# Altium footprint library lib_bourns.PcbLib: 3 footprints
Each footprint in its own frame and in the unit in brackets; x right, y up, seen from the top. Pads: shape width x height; smd on the part's side, far side on the other; paste and mask are expansions set on the pad; w line width, h text height; cw(c..) or ccw(c..) is an arc to the next point about the centre after c.
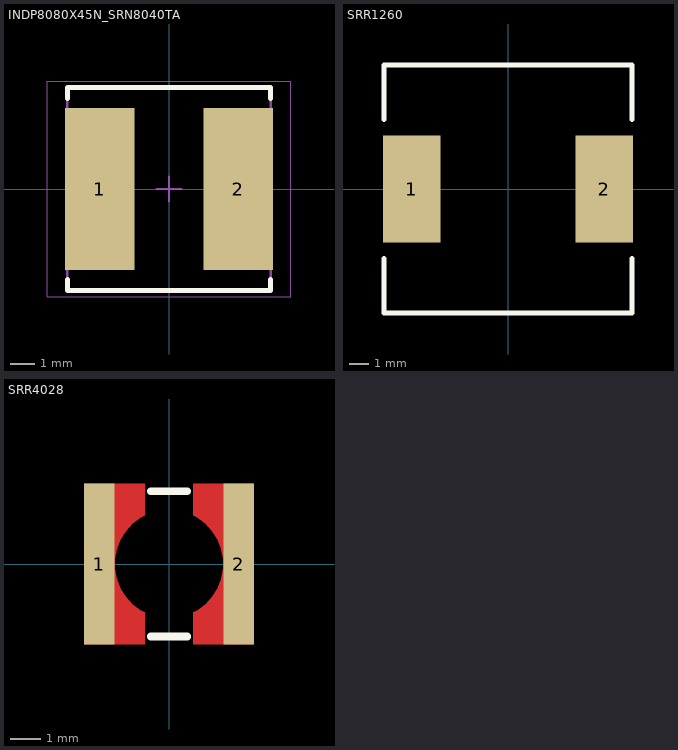
[diagram p0: the footprints below, top view; thin cyan lines are the x and y axes]

## INDP8080X45N_SRN8040TA [mm] "Precision Wire Wound Inductor, 2-Leads, Body 8.00x8.00mm, IPC Medium Density"
height 4.5
pads (2):
  rect 2.85x6.6 smd: 1(-2.825,0) 2(2.825,0)
Top Overlay:
  lines w0.2: -4.15,-3.7 -4.15,-4.15 4.15,-4.15 4.15,-3.7 ; -4.15,3.7 -4.15,4.15 4.15,4.15 4.15,3.7
Mechanical 13:
  lines w0.1: -4.15,-4.15 4.15,-4.15 4.15,4.15 -4.15,4.15 -4.15,-4.15
Mechanical 15:
  lines w0.05: -4.975,-4.4 4.975,-4.4 4.975,4.4 -4.975,4.4 -4.975,-4.4
  lines w0.1: -0.5,0 0.5,0 ; 0,-0.5 0,0.5
3D body: height 4.5, standoff 0, extent -4,-4 4,4

## SRR1260 [mm]
pads (2):
  rect 2.9x5.4 smd: 1(-4.85,0) 2(4.85,0)
Top Overlay:
  lines w0.254: -6.25,-3.5 -6.25,-6.25 6.25,-6.25 6.25,-3.5 ; -6.25,3.5 -6.25,6.25 6.25,6.25 6.25,3.5
3D body "srr1260.stp": height 6, standoff 0, extent -6.25,-6.25 6.25,6.25

## SRR4028 [mm]
pads (2):
  rect 1x5.3 smd: 1(-2.3,0) 2(2.3,0)
Top Layer:
  region: 0.8,-2.65 0.8,-1.6 0.945,-1.519 1.208,-1.32 1.431,-1.076 1.606,-0.795 1.725,-0.487 1.787,-0.162 1.787,0.169 1.727,0.494 1.608,0.802 1.435,1.084 1.213,1.329 0.949,1.529 0.805,1.61 0.8,1.6 0.8,2.65 2.8,2.65 2.8,-2.65
  region: -0.8,-2.65 -0.8,-1.6 -0.945,-1.519 -1.208,-1.32 -1.431,-1.076 -1.606,-0.795 -1.725,-0.487 -1.787,-0.162 -1.787,0.169 -1.727,0.494 -1.608,0.802 -1.435,1.084 -1.213,1.329 -0.949,1.529 -0.805,1.61 -0.8,1.6 -0.8,2.65 -2.8,2.65 -2.8,-2.65
Top Overlay:
  lines w0.254: -0.6,-2.393 0.6,-2.393 ; -0.6,2.4 0.6,2.4
3D body "srr4028.stp": height 2.8, standoff 0, extent -2.4,-2.396 2.4,2.404